# EAGLE library part CODEC_ES8388 (library !GPLIB_ACTIVE)
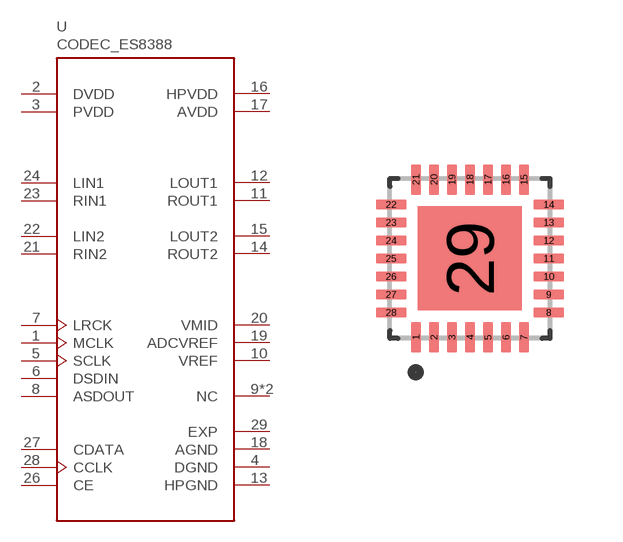
[diagram p0: symbol with the pads of QFN45P400X400X80-29N; footprint QFN45P400X400X80-29N]

Designator prefix U

## CODEC_ES8388_ES8388  [QFN45P400X400X80-29N]
1  MCLK  in
2  DVDD  pwr
3  PVDD  pwr
4  DGND  pwr
5  SCLK
6  DSDIN  in
7  LRCK
8  ASDOUT  out
9  NC  nc
10  VREF  out
11  ROUT1  out
12  LOUT1  out
13  HPGND  pwr
14  ROUT2  out
15  LOUT2  out
16  HPVDD  pwr
17  AVDD  pwr
18  AGND  pwr
19  ADCVREF  out
20  VMID  out
21  RIN2  in
22  LIN2  in
23  RIN1  in
24  LIN1  in
25  NC  nc
26  CE  in
27  CDATA
28  CCLK  in
29  EXP  pas

## Footprint QFN45P400X400X80-29N (pad centres in mm)
smd 0.25 x 0.77: 1 -1.35,-1.97; 2 -0.9,-1.97; 3 -0.45,-1.97; 4 0,-1.97; 5 0.45,-1.97; 6 0.9,-1.97; 7 1.35,-1.97; 15 1.35,1.97; 16 0.9,1.97; 17 0.45,1.97; 18 0,1.97; 19 -0.45,1.97; 20 -0.9,1.97; 21 -1.35,1.97
smd 0.77 x 0.25: 8 1.97,-1.35; 9 1.97,-0.9; 10 1.97,-0.45; 11 1.97,0; 12 1.97,0.45; 13 1.97,0.9; 14 1.97,1.35; 22 -1.97,1.35; 23 -1.97,0.9; 24 -1.97,0.45; 25 -1.97,0; 26 -1.97,-0.45; 27 -1.97,-0.9; 28 -1.97,-1.35
smd 2.6 x 2.6: 29 0,0